# Altium footprint library 万能贴片转直插板.PCBLIB: 2 footprints
Each footprint in its own frame and in the unit in brackets; x right, y up, seen from the top. Pads: shape width x height; smd on the part's side, far side on the other; paste and mask are expansions set on the pad; w line width, h text height; cw(c..) or ccw(c..) is an arc to the next point about the centre after c.
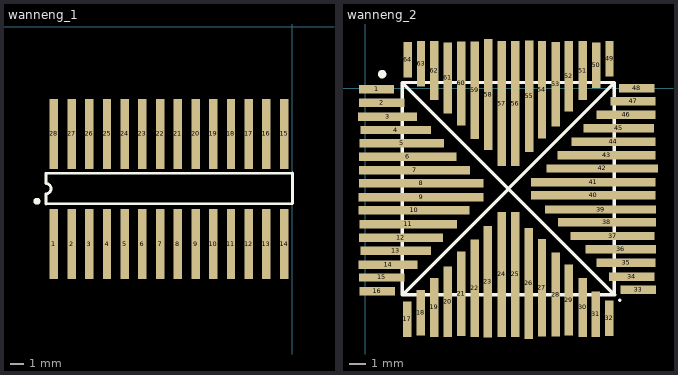
[diagram p0: the footprints below, top view; thin cyan lines are the x and y axes]

## wanneng_1 [mm]
pads (28):
  rect 0.6x5 smd: 1(-17.094,-15.596) 2(-15.824,-15.596) 3(-14.554,-15.596) 4(-13.284,-15.596) 5(-12.014,-15.596) 6(-10.744,-15.596) 7(-9.474,-15.596) 8(-8.204,-15.596) 9(-6.934,-15.596) 10(-5.664,-15.596) 11(-4.394,-15.596) 12(-3.124,-15.596) 13(-1.854,-15.596) 14(-0.584,-15.596) 15(-0.584,-7.694) 16(-1.854,-7.694) 17(-3.124,-7.694) 18(-4.394,-7.694) 19(-5.664,-7.694) 20(-6.934,-7.694) 21(-8.204,-7.694) 22(-9.474,-7.694) 23(-10.744,-7.694) 24(-12.014,-7.694) 25(-13.284,-7.694) 26(-14.554,-7.694) 27(-15.824,-7.694) 28(-17.094,-7.694)
Top Overlay:
  circle w0.25: c-18.311,-12.522 r0.125
  lines w0.2: -17.664,-12.717 -17.664,-11.984 ccw(c-17.664,-11.617) -17.664,-11.25 -17.664,-10.517 0.011,-10.492 0.011,-12.692 -17.664,-12.717

## wanneng_2 [mm]
pads (64):
  rect 2.1x0.5 smd paste+0: 1(0.66,-0.076) 33(16.205,-11.989)
  rect 2.7x0.5 smd: 2(0.965,-0.864) 15(0.965,-11.252) 34(15.824,-11.201) 47(15.9,-0.787)
  rect 3.5x0.5 smd: 3(1.321,-1.702) 14(1.346,-10.49) 35(15.494,-10.389) 46(15.494,-1.575)
  rect 4.2x0.5 smd: 4(1.809,-2.489) 13(1.809,-9.652) 36(15.165,-9.576) 45(15.057,-2.388)
  rect 5x0.5 smd: 5(2.159,-3.277) 12(2.108,-8.89) 37(14.681,-8.788) 44(14.732,-3.175)
  rect 5.8x0.5 smd: 6(2.515,-4.089) 11(2.54,-8.077) 38(14.351,-7.976) 43(14.326,-3.988)
  rect 6.6x0.5 smd: 7(2.921,-4.877) 10(2.896,-7.264) 39(13.97,-7.214) 42(14.072,-4.775)
  rect 7.4x0.5 smd: 8(3.327,-5.664) 9(3.302,-6.477) 40(13.538,-6.375) 41(13.538,-5.588)
  rect 2.1x0.5 smd: 16(0.711,-12.065) 48(16.129,0)
  rect 0.5x2.1 smd paste+0: 17(2.489,-13.741) 49(14.503,1.753)
  rect 0.5x2.7 smd: 18(3.277,-13.36) 31(13.691,-13.437) 50(13.716,1.372) 63(3.302,1.448)
  rect 0.5x3.5 smd: 19(4.089,-13.03) 30(12.903,-13.03) 51(12.903,1.041) 62(4.089,1.041)
  rect 0.5x4.2 smd: 20(4.902,-12.701) 29(12.09,-12.593) 52(12.09,0.712) 61(4.902,0.604)
  rect 0.5x5 smd: 21(5.69,-12.217) 28(11.303,-12.268) 53(11.303,0.229) 60(5.69,0.279)
  rect 0.5x5.8 smd: 22(6.502,-11.887) 27(10.49,-11.862) 54(10.49,-0.102) 59(6.502,-0.127)
  rect 0.5x6.6 smd: 23(7.264,-11.506) 26(9.703,-11.608) 55(9.728,-0.483) 58(7.29,-0.381)
  rect 0.5x7.4 smd: 24(8.103,-11.074) 25(8.89,-11.074) 56(8.89,-0.914) 57(8.103,-0.914)
  rect 0.5x2.1 smd: 32(14.478,-13.665) 64(2.515,1.676)
Top Overlay:
  circle w0.25: c0.99,0.831 r0.125
  lines w0.2: 2.19,-12.269 2.19,0.331 ; 2.209,-12.269 14.79,0.312 ; 2.215,-12.269 14.815,-12.269 ; 15.114,-12.618 15.114,-12.599 ; 2.19,0.331 14.79,0.331 14.79,-12.269 2.19,0.331